# Altium integrated library TSW-107-05-G-D.IntLib: 1 symbol
Pins are listed as number, name and electrical type; pins without a type are passive.

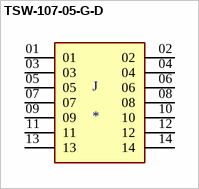
[diagram p0: symbol TSW-107-05-G-D]

## TSW-107-05-G-D
designator J
MP: TSW-107-05-G-D; MF: Samtec Inc.; Value: *; Availability: Unavailable; Price: None; Package: None
footprint SAMTEC_TSW-107-05-G-D
pins: 01, 02, 03, 04, 05, 06, 07, 08, 09, 10, 11, 12, 13, 14